# Altium footprint library WeatherStation.PcbLib: 9 footprints
Each footprint in its own frame and in the unit in brackets; x right, y up, seen from the top. Pads: shape width x height; smd on the part's side, far side on the other; paste and mask are expansions set on the pad; w line width, h text height; cw(c..) or ccw(c..) is an arc to the next point about the centre after c.
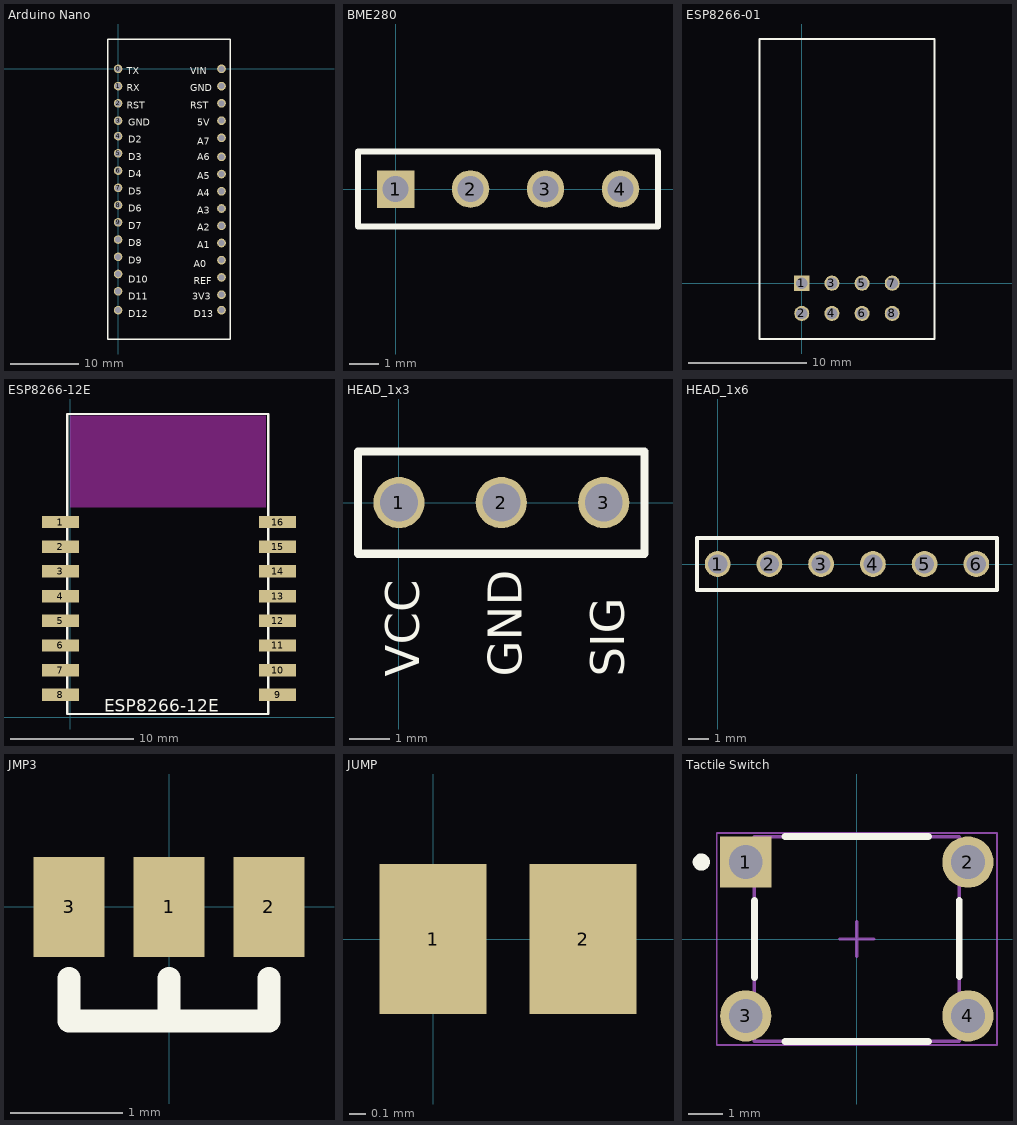
[diagram p0: the footprints below, top view; thin cyan lines are the x and y axes]

## Arduino Nano [mil]
pads (30):
  round 50 hole 35: 0(0,0) 1(0,-100) 2(0,-200) 3(0,-300) 4(0,-390) 5(0,-490) 6(0,-590) 7(0,-690) 8(0,-790) 9(0,-890) 10(0,-990) 11(0,-1090) 12(0,-1190) 13(0,-1290) 14(0,-1400) 15(600,-1400) 16(600,-1310) 17(600,-1210) 18(600,-1110) 19(600,-1010) 20(600,-910) 21(600,-810) 22(600,-710) 23(600,-610) 24(600,-510) 25(600,-400) 26(600,-300) 27(600,-200) 28(600,-100) 29(600,0)
Top Overlay:
  lines w8: -59.06,-1566.93 650,-1566.93 650,173.23 -59.05,173.23 -59.06,-1566.93
  text "REF" at 440,-1250 h40
  text "VIN" at 420,-30 h40
  text "GND" at 420,-130 h40
  text "RST" at 420,-230 h40
  text "3V3" at 430,-1340 h40
  text "5V" at 459.99,-330 h40
  text "A7" at 459.99,-440 h40
  text "A6" at 459.99,-530 h40
  text "A5" at 460,-640 h40
  text "A4" at 460,-740 h40
  text "A3" at 460,-840 h40
  text "A2" at 460,-940 h40
  text "A1" at 460,-1040 h40
  text "A0" at 440,-1150 h40
  text "D13" at 440,-1440 h40
  text "D12" at 60,-1440 h40
  text "D11" at 60,-1340 h40
  text "D10" at 60,-1240 h40
  text "D9" at 60,-1130 h40
  text "D8" at 60,-1030 h40
  text "D7" at 60,-930 h40
  text "D6" at 60,-830 h40
  text "D5" at 60,-730 h40
  text "D4" at 60,-630 h40
  text "D3" at 60,-530 h40
  text "D2" at 60,-430 h40
  text "GND" at 60,-330 h40
  text "RST" at 50,-230 h40
  text "RX" at 50,-130 h40
  text "TX" at 50,-30 h40
3D body "User Library-ARDUINO NANO.step": height 511.81, standoff -226.38, extent -62.98,-1562.99 645.68,234.25

## BME280 [mil]
pads (4):
  rect 50x50 hole 35: 1(0,0)
  round 50 hole 35: 2(100,0) 3(200,0) 4(300,0)
Top Overlay:
  lines w8: -50,-50 350,-50 350,50 -50,50 -50,-50

## ESP8266-01 [mil]
pads (8):
  rect 50x50 hole 37: 1(0,0)
  round 50 hole 37: 2(0,-100) 3(100,0) 4(100,-100) 5(200,0) 6(200,-100) 7(300,0) 8(300,-100)
Top Overlay:
  lines w7.87: -140,-185 -140,810 440,810 440,-185 -140,-185
3D body "ESP8266-ESP01.stp": height 229.92, standoff -175.59, extent -136.43,-172 434.44,812.25

## ESP8266-12E [mm]
pads (16):
  rect 3x1 smd: 1(-0.8,15.8) 2(-0.8,13.8) 3(-0.8,11.8) 4(-0.8,9.8) 5(-0.8,7.8) 6(-0.8,5.8) 7(-0.8,3.8) 8(-0.8,1.8) 9(16.8,1.8) 10(16.8,3.8) 11(16.8,5.8) 12(16.8,7.8) 13(16.8,9.8) 14(16.8,11.8) 15(16.8,13.8) 16(16.8,15.8)
Top Layer keep-out:
  region: 0,24.402 0,17 15.85,17 15.85,24.402
Top Overlay:
  lines w0.2: -0.25,0.25 -0.25,24.55 16.05,24.55 16.05,0.25 -0.25,0.25
  text "ESP8266-12E" at 2.75,0.45 h1.02
3D body "ESP8266 single.stp": height 3, standoff -0.01, extent -0.1,0.4 15.9,24.402
3D body: height 5.9, standoff -1.4, extent 24.85,5.7 24.85,5.7

## HEAD_1x3 [mil]
pads (3):
  round 50 hole 37: 1(0,0) 2(100,0) 3(200,0)
Top Overlay:
  lines w7.87: -40,-50 -40,50 240,50 240,-50 -40,-50
  text "SIG" at 220,-170 h33
  text "GND" at 120,-170 h33
  text "VCC" at 20,-170 h33

## HEAD_1x6 [mil]
pads (6):
  round 50 hole 37: 1(0,0) 2(100,0) 3(200,0) 4(300,0) 5(400,0) 6(500,0)
Top Overlay:
  lines w7.87: -40,-50 -40,50 540,50 540,-50 -40,-50

## JMP3 [mil]
pads (3):
  rect 25x35 smd: 1(0,0) 2(35,0) 3(-35,0)
Top Overlay:
  lines w8: -35,-25 -35,-40 35,-40 35,-25 ; 0,-40 0,-25

## JUMP [mil]
pads (2):
  rect 25x35 smd: 1(0,0) 2(35,0)

## Tactile Switch [mm]
pads (4):
  rect 1.5x1.5 hole 0.99: 1(-3.25,2.25)
  round 1.5 hole 0.99: 2(3.25,2.25) 3(-3.25,-2.25) 4(3.25,-2.25)
Top Overlay:
  circle w0.25: c-4.55,2.25 r0.125
  lines w0.2: -2.995,-1.129 -2.995,1.129 ; -2.104,-2.995 2.1,-2.995 ; -2.104,2.995 2.1,2.995 ; 2.995,-1.1 2.995,1.129
Mechanical 13:
  lines w0.1: -2.995,-2.995 -2.995,2.995 2.995,2.995 2.995,-2.995 -2.995,-2.995
Mechanical 15:
  lines w0.05: -4.1,-3.1 -4.1,3.1 4.1,3.1 4.1,-3.1 -4.1,-3.1
  lines w0.1: -0.5,0 0.5,0 ; 0,-0.5 0,0.5
3D body "tactile_switch.stp": height 5, standoff -3.5, extent -3.85,-4.25 3.85,3